# Altium integrated library TI Power Management PCMCIA and USB.IntLib: 328 symbols (part 13 of 14)
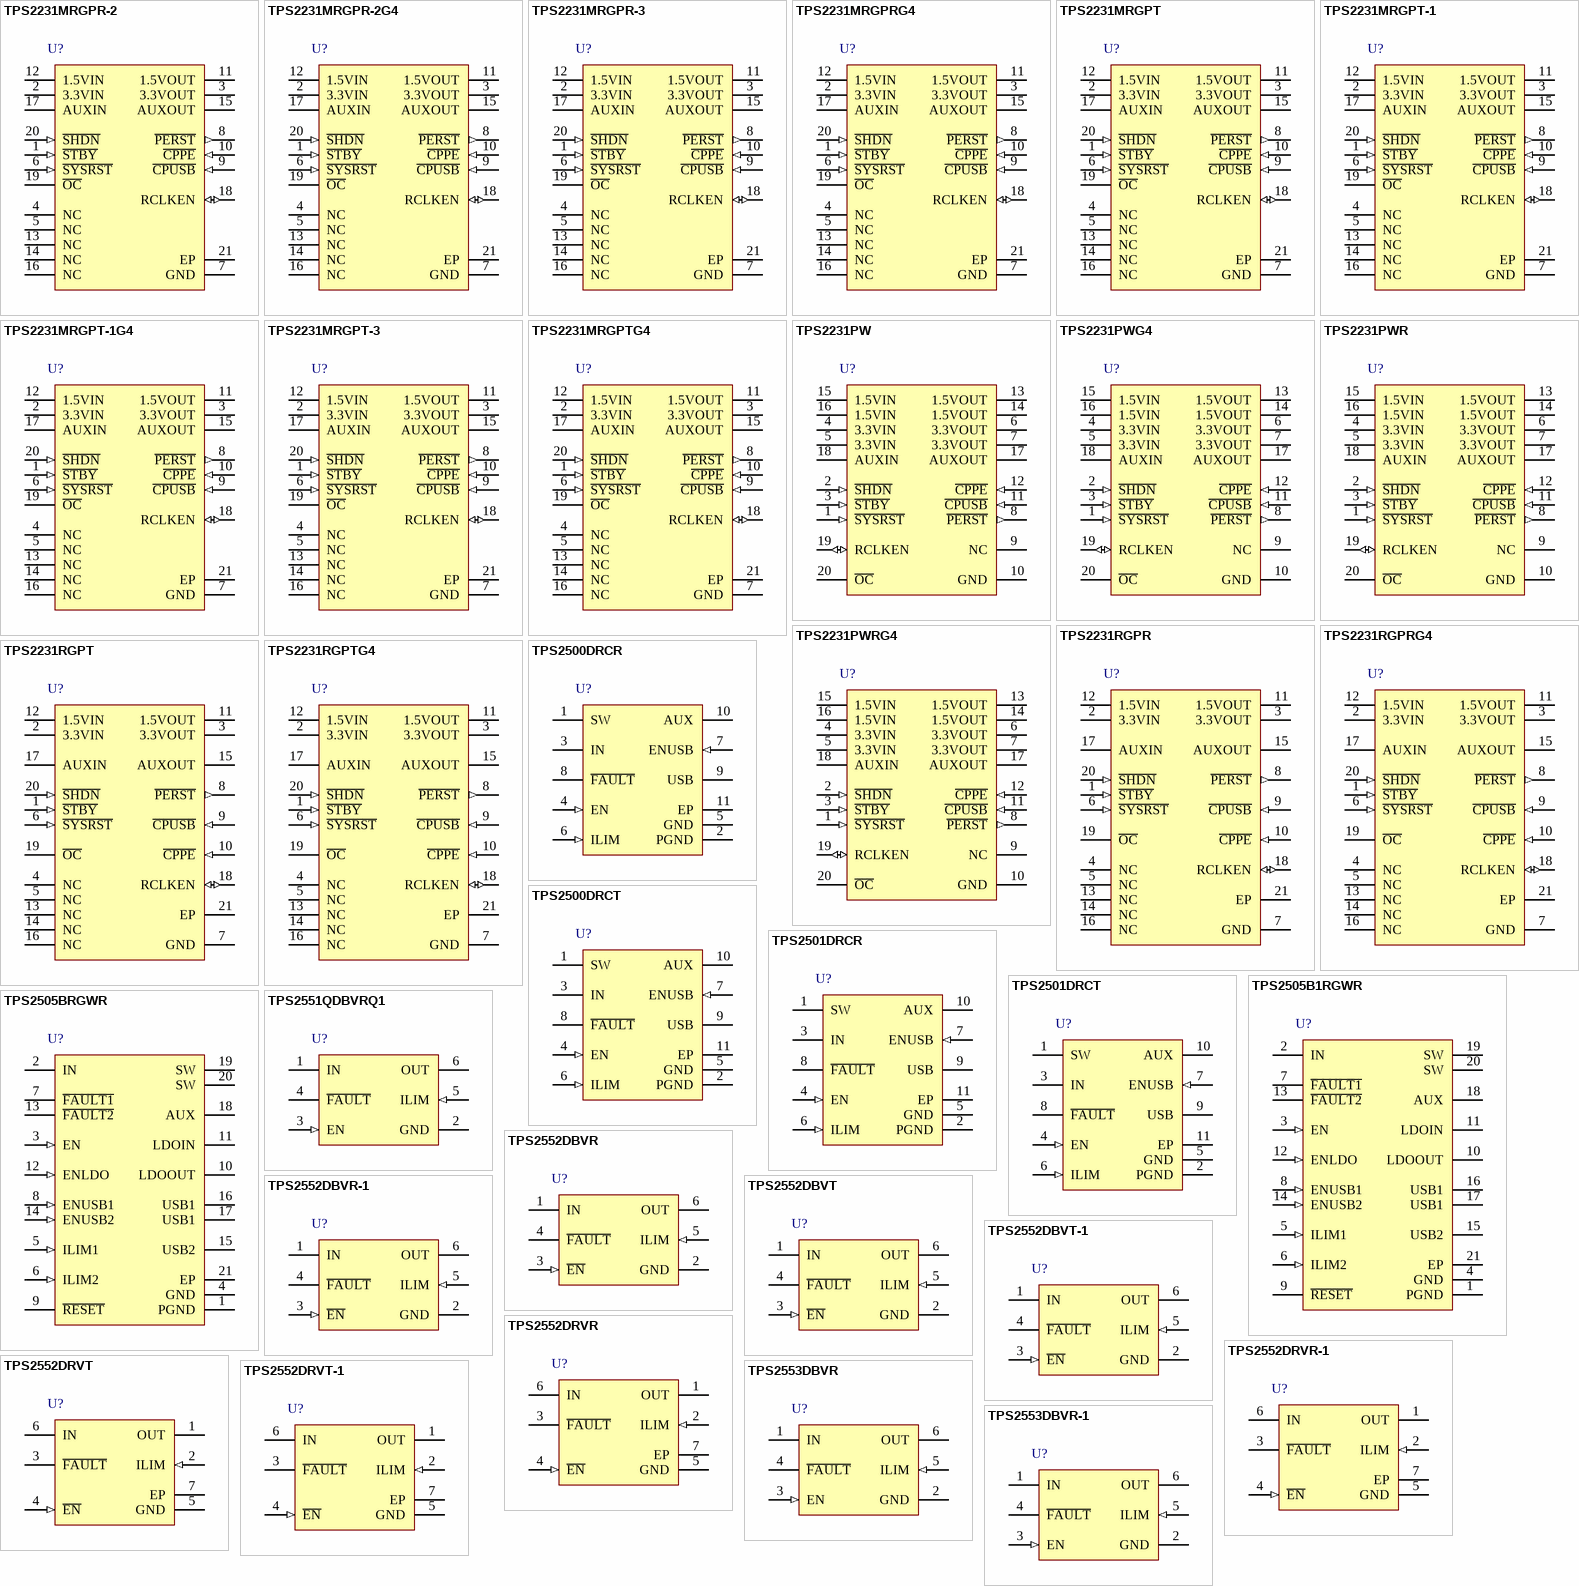
[diagram p22: symbols TPS2231MRGPR-2 to TPS2553DBVR-1]

## TPS2231RGPTG4
designator U?
ExpressCard Single Power Interface Switch, 20-pin QFN (RGP), Green (RoHS & no Sb/Br); Manufacturer: Texas Instruments; PartNumber: TPS2231RGPTG4; 3V rDS(on)(Typ)(mOhm): 45; Adjustable Current Limit(Min)(A): 2.5; Curr/Temp Protection: TRUE; Interface: Parallel; Ports: 1; SubFamily: PCMCIA/Cardbus Switch Matrix; DatasheetVersion: SLVS536J; PackageVersion: revG, Jul-2011; PackageReference: RGP20-2700X2700TP; PackageDescription: 20-Pin Plastic Quad Flatpack No-Lead, 4 x 4 mm Body, 0.5 mm Pitch; Supplier 1: Digi-Key; Supplier Part Number 1: TPS2231RGPTG4-ND; Supplier 2: Newark; Supplier Part Number 2: 58K6904; Supplier 3: Mouser; Supplier Part Number 3: 595-TPS2231RGPTG4; 5V rDS(on)(Typ)(mOhm): 45; Over Current Reporting: TRUE; Over Temp Reporting: TRUE; Single: TRUE; Single Channel: TRUE; Mounting Technology: Surface Mount; Code_JEDEC: MO-220; ComponentLink1Description: Datasheet; ComponentLink1URL: http://www.ti.com/general/docs/lit/getliterature.tsp?genericPartNumber=TPS2231&fileType=pdf
footprint RGP20-2700X2700TP (QFN, 20-Leads, Body 4x4mm, Pitch 0.5mm, Thermal Pad 2.7x2.7mm, TI Recommended)
pins: 1 ~{STBY} (in) "Standby input - active low, logic level signal. Internally pulled up to AUXIN.", 2 3.3VIN (power) "3.3-V input for 3.3VOUT", 3 3.3VOUT (power) "Switched output that delivers 0 V, 3.3 V or high impedance to card", 4 NC "No connection", 5 NC "No connection", 6 ~{SYSRST} (in) "System Reset input - active low, logic level signal. Internally pulled up to AUXIN.", 7 GND (power) "Ground", 8 ~{PERST} (out) "A logic level power good to slot 0 (with delay)", 9 ~{CPUSB} (in) "Card Present input for USB cards. Internally pulled up to AUXIN.", 10 ~{CPPE} (in) "Card Present input for PCI Express cards. Internally pulled up to AUXIN", 11 1.5VOUT (power) "Switched output that delivers 0 V, 1.5 V or high impedance to card", 12 1.5VIN (power) "1.5-V input for 1.5VOUT", 13 NC "No connection", 14 NC "No connection", 15 AUXOUT (power) "Switched output that delivers 0 V, AUX or high impedance to card", 16 NC "No connection", 17 AUXIN (power) "AUX input for AUXOUT and chip power", 18 RCLKEN (io) "Reference Clock Enable signal. As an output, a logic level power good to host for slot 0 (no delay - open drain). As an input, if kept inactive (low) by the host, prevents PERST from being de-asserted. Internally pulled up (See Datasheet)", 19 ~{OC} (oc) "Overcurrent status output for slot 0 (open drain)", 20 ~{SHDN} (in) "Shutdown input - active low, logic level signal. Internally pulled up to AUXIN.", 21 EP "Exposed Thermal Pad"

## TPS2500DRCR
designator U?
Integrated USB Power Switch with Boost Converter, 0.13 to 1.4 A Current Limit, -40 to 85 degC, 10-pin SON (DRC), Green (RoHS & no Sb/Br); Manufacturer: Texas Instruments; PartNumber: TPS2500DRCR; Continuous Current(Max)(A): 1.4; Current Limit Topology: Constant-Current; Enable: Active High; Number of Switches: 1; Rating: Catalog; Vin(Max)(V): 5.25; Vin(Min)(V): 1.8; DatasheetVersion: SLVS886C; PackageVersion: revL, Sep-2011; PackageReference: DRC10-2400X1650TP; PackageDescription: 10-Pin Plastic Small Outline No-Lead, 3 x 3 x 1 mm Body, 0.5 mm Pitch, Exposed Pad; Supplier 1: Digi-Key; Supplier Part Number 1: 296-25150-2-ND; Supplier 2: Digi-Key; Supplier Part Number 2: 296-25150-1-ND; Supplier 3: Digi-Key; Supplier Part Number 3: 296-25150-6-ND; Supplier 4: Newark; Supplier Part Number 4: 50R8107; Supplier 5: Mouser; Supplier Part Number 5: 595-TPS2500DRCR; Current Limit(A): 0.13 to 1.4; Eco-Plan: Green (RoHS & no Sb/Br); Mounting Technology: Surface Mount; ComponentLink1Description: Datasheet; ComponentLink1URL: http://www.ti.com/general/docs/lit/getliterature.tsp?genericPartNumber=TPS2500&fileType=pdf
footprint DRC10-2400X1650TP (SON, 10-Leads, Body 3x3mm, Pitch 0.5mm, Thermal Pad 2.4x1.65mm, TI Recommended)
pins: 1 SW (power) "Boost and rectifying switch input. This node is switched between PGND and AUX. Connect the boost inductor from IN to SW.", 2 PGND (power) "Source connection for the internal low-side boost-converter power switch. Connect to GND with a low-impedance connection to the input and output capacitors.", 3 IN (power) "Input supply voltage for boost converter", 4 EN (in) "Enable input for boost converter. Tie to IN to enable.", 5 GND (power) "Control/logic ground. Must be tied to PGND close to the IC externally.", 6 ILIM (in) "Program the nominal USB-switch current-limit threshold with a resistor to GND.", 7 ENUSB (in) "Enable input for the USB switch. Tie to IN or AUX to enable.", 8 ~{FAULT} (oc) "Active-low USB fault indicator (open-drain)", 9 USB (power) "Output of the USB power switch. Connect to the USB port.", 10 AUX (power) "Fixed 5.1-V boost converter output. Connect a low-ESR ceramic capacitor from AUX to PGND.", 11 EP (power) "Must be soldered to achieve appropriate power dissipation. Connect to GND."

## TPS2500DRCT
designator U?
Integrated USB Power Switch with Boost Converter, 0.13 to 1.4 A Current Limit, -40 to 85 degC, 10-pin SON (DRC), Green (RoHS & no Sb/Br); Manufacturer: Texas Instruments; PartNumber: TPS2500DRCT; Continuous Current(Max)(A): 1.4; Current Limit Topology: Constant-Current; Enable: Active High; Number of Switches: 1; Rating: Catalog; Vin(Max)(V): 5.25; Vin(Min)(V): 1.8; DatasheetVersion: SLVS886C; PackageVersion: revL, Sep-2011; PackageReference: DRC10-2400X1650TP; PackageDescription: 10-Pin Plastic Small Outline No-Lead, 3 x 3 x 1 mm Body, 0.5 mm Pitch, Exposed Pad; Supplier 1: Digi-Key; Supplier Part Number 1: 296-32462-2-ND; Supplier 2: Digi-Key; Supplier Part Number 2: 296-32462-1-ND; Supplier 3: Digi-Key; Supplier Part Number 3: 296-32462-6-ND; Supplier 4: Newark; Supplier Part Number 4: 29R0268; Supplier 5: Mouser; Supplier Part Number 5: 595-TPS2500DRCT; Current Limit(A): 0.13 to 1.4; Eco-Plan: Green (RoHS & no Sb/Br); Mounting Technology: Surface Mount; ComponentLink1Description: Datasheet; ComponentLink1URL: http://www.ti.com/general/docs/lit/getliterature.tsp?genericPartNumber=TPS2500&fileType=pdf
footprint DRC10-2400X1650TP (SON, 10-Leads, Body 3x3mm, Pitch 0.5mm, Thermal Pad 2.4x1.65mm, TI Recommended)
pins: 1 SW (power) "Boost and rectifying switch input. This node is switched between PGND and AUX. Connect the boost inductor from IN to SW.", 2 PGND (power) "Source connection for the internal low-side boost-converter power switch. Connect to GND with a low-impedance connection to the input and output capacitors.", 3 IN (power) "Input supply voltage for boost converter", 4 EN (in) "Enable input for boost converter. Tie to IN to enable.", 5 GND (power) "Control/logic ground. Must be tied to PGND close to the IC externally.", 6 ILIM (in) "Program the nominal USB-switch current-limit threshold with a resistor to GND.", 7 ENUSB (in) "Enable input for the USB switch. Tie to IN or AUX to enable.", 8 ~{FAULT} (oc) "Active-low USB fault indicator (open-drain)", 9 USB (power) "Output of the USB power switch. Connect to the USB port.", 10 AUX (power) "Fixed 5.1-V boost converter output. Connect a low-ESR ceramic capacitor from AUX to PGND.", 11 EP (power) "Must be soldered to achieve appropriate power dissipation. Connect to GND."

## TPS2501DRCR
designator U?
Integrated USB Power Switch with Boost Converter, 0.13 to 1.4 A Current Limit, -40 to 85 degC, 10-pin SON (DRC), Green (RoHS & no Sb/Br); Manufacturer: Texas Instruments; PartNumber: TPS2501DRCR; Continuous Current(Max)(A): 1.4; Current Limit Topology: Constant-Current; Enable: Active High; Number of Switches: 1; Rating: Catalog; Vin(Max)(V): 5.25; Vin(Min)(V): 1.8; DatasheetVersion: SLVS886C; PackageVersion: revL, Sep-2011; PackageReference: DRC10-2400X1650TP; PackageDescription: 10-Pin Plastic Small Outline No-Lead, 3 x 3 x 1 mm Body, 0.5 mm Pitch, Exposed Pad; Supplier 1: Digi-Key; Supplier Part Number 1: 296-25151-2-ND; Supplier 2: Digi-Key; Supplier Part Number 2: 296-25151-1-ND; Supplier 3: Digi-Key; Supplier Part Number 3: 296-25151-6-ND; Supplier 4: Newark; Supplier Part Number 4: 50R8109; Supplier 5: Mouser; Supplier Part Number 5: 595-TPS2501DRCR; Current Limit(A): 0.13 to 1.4; Eco-Plan: Green (RoHS & no Sb/Br); Mounting Technology: Surface Mount; ComponentLink1Description: Datasheet; ComponentLink1URL: http://www.ti.com/general/docs/lit/getliterature.tsp?genericPartNumber=TPS2501&fileType=pdf
footprint DRC10-2400X1650TP (SON, 10-Leads, Body 3x3mm, Pitch 0.5mm, Thermal Pad 2.4x1.65mm, TI Recommended)
pins: 1 SW (power) "Boost and rectifying switch input. This node is switched between PGND and AUX. Connect the boost inductor from IN to SW.", 2 PGND (power) "Source connection for the internal low-side boost-converter power switch. Connect to GND with a low-impedance connection to the input and output capacitors.", 3 IN (power) "Input supply voltage for boost converter.", 4 EN (in) "Enable input for boost converter. Tie to IN to enable.", 5 GND (power) "Control/logic ground. Must be tied to PGND close to the IC externally.", 6 ILIM (in) "Program the nominal USB-switch current-limit threshold with a resistor to GND.", 7 ENUSB (in) "Enable input for the USB switch. Tie to IN or AUX to enable.", 8 ~{FAULT} (oc) "Active-low USB fault indicator (open-drain).", 9 USB (power) "Output of the USB power switch. Connect to the USB port.", 10 AUX (power) "Fixed 5.1-V boost converter output. Connect a low-ESR ceramic capacitor from AUX to PGND.", 11 EP (power) "Must be soldered to achieve appropriate power dissipation. Connect to GND."

## TPS2501DRCT
designator U?
Integrated USB Power Switch with Boost Converter, 0.13 to 1.4 A Current Limit, -40 to 85 degC, 10-pin SON (DRC), Green (RoHS & no Sb/Br); Manufacturer: Texas Instruments; PartNumber: TPS2501DRCT; Continuous Current(Max)(A): 1.4; Current Limit Topology: Constant-Current; Enable: Active High; Number of Switches: 1; Rating: Catalog; Vin(Max)(V): 5.25; Vin(Min)(V): 1.8; DatasheetVersion: SLVS886C; PackageVersion: revL, Sep-2011; PackageReference: DRC10-2400X1650TP; PackageDescription: 10-Pin Plastic Small Outline No-Lead, 3 x 3 x 1 mm Body, 0.5 mm Pitch, Exposed Pad; Supplier 1: Digi-Key; Supplier Part Number 1: 296-32463-2-ND; Supplier 2: Digi-Key; Supplier Part Number 2: 296-32463-1-ND; Supplier 3: Digi-Key; Supplier Part Number 3: 296-32463-6-ND; Supplier 4: Newark; Supplier Part Number 4: 50R8110; Supplier 5: Mouser; Supplier Part Number 5: 595-TPS2501DRCT; Current Limit(A): 0.13 to 1.4; Eco-Plan: Green (RoHS & no Sb/Br); Mounting Technology: Surface Mount; ComponentLink1Description: Datasheet; ComponentLink1URL: http://www.ti.com/general/docs/lit/getliterature.tsp?genericPartNumber=TPS2501&fileType=pdf
footprint DRC10-2400X1650TP (SON, 10-Leads, Body 3x3mm, Pitch 0.5mm, Thermal Pad 2.4x1.65mm, TI Recommended)
pins: 1 SW (power) "Boost and rectifying switch input. This node is switched between PGND and AUX. Connect the boost inductor from IN to SW.", 2 PGND (power) "Source connection for the internal low-side boost-converter power switch. Connect to GND with a low-impedance connection to the input and output capacitors.", 3 IN (power) "Input supply voltage for boost converter.", 4 EN (in) "Enable input for boost converter. Tie to IN to enable.", 5 GND (power) "Control/logic ground. Must be tied to PGND close to the IC externally.", 6 ILIM (in) "Program the nominal USB-switch current-limit threshold with a resistor to GND.", 7 ENUSB (in) "Enable input for the USB switch. Tie to IN or AUX to enable.", 8 ~{FAULT} (oc) "Active-low USB fault indicator (open-drain).", 9 USB (power) "Output of the USB power switch. Connect to the USB port.", 10 AUX (power) "Fixed 5.1-V boost converter output. Connect a low-ESR ceramic capacitor from AUX to PGND.", 11 EP (power) "Must be soldered to achieve appropriate power dissipation. Connect to GND."

## TPS2505B1RGWR
designator U?
Integrated Dual USB Power Switch with Boost Converter and LDO, 0.1 to 1.1 A Current Limit, -40 to 85 degC, 20-pin VQFN (RGW), Green (RoHS & no Sb/Br); Manufacturer: Texas Instruments; PartNumber: TPS2505B1RGWR; Rating: Catalog; Vin(Max)(V): 5.25; Vin(Min)(V): 1.8; DatasheetVersion: SPAS093B; PackageVersion: revC, Jul-2011; PackageReference: RGW20-3150X3150TP; PackageDescription: 20-Pin Plastic Quad Flat No-Lead, 5 x 5 mm Body, 0.65 mm Pitch, 3.15 x 3.15 mm Exposed Pad; Supplier 1: Digi-Key; Supplier Part Number 1: 296-25805-2-ND; Supplier 2: Digi-Key; Supplier Part Number 2: 296-25805-1-ND; Supplier 3: Digi-Key; Supplier Part Number 3: 296-25805-6-ND; Supplier 4: Newark; Supplier Part Number 4: 69R0438; Supplier 5: Mouser; Supplier Part Number 5: 595-TPS2505B1RGWR; Current Limit(A): 0.1 to 1.1; Eco-Plan: Green (RoHS & no Sb/Br); Mounting Technology: Surface Mount; Code_JEDEC: MO-220; ComponentLink1Description: Datasheet; ComponentLink1URL: http://www.ti.com/general/docs/lit/getliterature.tsp?genericPartNumber=TPS2505&fileType=pdf
footprint RGW20-3150X3150TP (QFN, 20-Leads, Body 5x5mm, Pitch 0.65mm, Thermal Pad 3.15x3.15mm, TI Recommended)
pins: 1 PGND (power) "Source connection for the internal low-side boost converter power switch. Connect to GND with a low impedance connection to the input and output capacitors.", 2 IN (power) "Input supply voltage for boost converter", 3 EN (in) "Enable input for boost converter. Tie to IN to enable.", 4 GND (power) "Control / logic ground. Must be tied to PGND close to the IC externally.", 5 ILIM1 (in) "Program the nominal USB1 switch current-limit threshold with a resistor to GND", 6 ILIM2 (in) "Program the nominal USB2 switch current-limit threshold with a resistor to GND.", 7 ~{FAULT1} (oc) "Active low USB1 fault indicator (open drain).", 8 ENUSB1 (in) "Enable input for the USB1 switch. Tie to IN or AUX to enable.", 9 ~{RESET} (oc) "Active low LDO output good indicator (open drain)", 10 LDOOUT (power) "Fixed 3.3-V LDO output. Connect a low-ESR ceramic capacitor from LDOOUT to GND.", 11 LDOIN (power) "Input supply voltage for LDO. Connect to AUX", 12 ENLDO (in) "Enable input for the LDO. Tie to AUX to enable.", 13 ~{FAULT2} (oc) "Active low USB2 fault indicator (open drain).", 14 ENUSB2 (in) "Enable input for the USB2 switch. Tie to IN or AUX to enable.", 15 USB2 (power) "Output of the USB2 power switch. Connect to the USB2 port.", 16 USB1 (power) "Output of the USB1 power switch. Connect to the USB1 port.", 17 USB1 (power) "Output of the USB1 power switch. Connect to the USB1 port.", 18 AUX (power) "Fixed 5.1-V boost converter output. Connect a low-ESR ceramic capacitor from AUX to PGND.", 19 SW (power) "Boost and rectifying switch input. This node is switched between PGND and AUX. Connect  the boost inductor from IN to SW.", 20 SW (power) "Boost and rectifying switch input. This node is switched between PGND and AUX. Connect  the boost inductor from IN to SW.", 21 EP (power) "Internally connected to PGND. Must be soldered to board ground for thermal dissipation."

## TPS2505BRGWR
designator U?
Integrated Dual USB Power Switch with Boost Converter and LDO, 0.1 to 1.1 A Current Limit, -40 to 85 degC, 20-pin VQFN (RGW); Manufacturer: Texas Instruments; PartNumber: TPS2505BRGWR; Rating: Catalog; Vin(Max)(V): 5.25; Vin(Min)(V): 1.8; DatasheetVersion: SPAS093B; PackageVersion: revC, Jul-2011; PackageReference: RGW20-3150X3150TP; PackageDescription: 20-Pin Plastic Quad Flat No-Lead, 5 x 5 mm Body, 0.65 mm Pitch, 3.15 x 3.15 mm Exposed Pad; Supplier 1: Mouser; Supplier Part Number 1: N/A; Current Limit(A): 0.1 to 1.1; Mounting Technology: Surface Mount; Code_JEDEC: MO-220; ComponentLink1Description: Datasheet; ComponentLink1URL: http://www.ti.com/general/docs/lit/getliterature.tsp?genericPartNumber=TPS2505&fileType=pdf
footprint RGW20-3150X3150TP (QFN, 20-Leads, Body 5x5mm, Pitch 0.65mm, Thermal Pad 3.15x3.15mm, TI Recommended)
pins: 1 PGND (power) "Source connection for the internal low-side boost converter power switch. Connect to GND with a low impedance connection to the input and output capacitors.", 2 IN (power) "Input supply voltage for boost converter", 3 EN (in) "Enable input for boost converter. Tie to IN to enable.", 4 GND (power) "Control / logic ground. Must be tied to PGND close to the IC externally.", 5 ILIM1 (in) "Program the nominal USB1 switch current-limit threshold with a resistor to GND", 6 ILIM2 (in) "Program the nominal USB2 switch current-limit threshold with a resistor to GND.", 7 ~{FAULT1} (oc) "Active low USB1 fault indicator (open drain).", 8 ENUSB1 (in) "Enable input for the USB1 switch. Tie to IN or AUX to enable.", 9 ~{RESET} (oc) "Active low LDO output good indicator (open drain)", 10 LDOOUT (power) "Fixed 3.3-V LDO output. Connect a low-ESR ceramic capacitor from LDOOUT to GND.", 11 LDOIN (power) "Input supply voltage for LDO. Connect to AUX", 12 ENLDO (in) "Enable input for the LDO. Tie to AUX to enable.", 13 ~{FAULT2} (oc) "Active low USB2 fault indicator (open drain).", 14 ENUSB2 (in) "Enable input for the USB2 switch. Tie to IN or AUX to enable.", 15 USB2 (power) "Output of the USB2 power switch. Connect to the USB2 port.", 16 USB1 (power) "Output of the USB1 power switch. Connect to the USB1 port.", 17 USB1 (power) "Output of the USB1 power switch. Connect to the USB1 port.", 18 AUX (power) "Fixed 5.1-V boost converter output. Connect a low-ESR ceramic capacitor from AUX to PGND.", 19 SW (power) "Boost and rectifying switch input. This node is switched between PGND and AUX. Connect  the boost inductor from IN to SW.", 20 SW (power) "Boost and rectifying switch input. This node is switched between PGND and AUX. Connect  the boost inductor from IN to SW.", 21 EP (power) "Internally connected to PGND. Must be soldered to board ground for thermal dissipation."

## TPS2551QDBVRQ1
designator U?
Dual-Channel, Current-Limited, Power-Distribution Switch, 0.1 to 1.1 A Current Limit, -40 to 125 degC, 6-pin SOT-23 (DBV), Green (RoHS & no Sb/Br); Manufacturer: Texas Instruments; PartNumber: TPS2551QDBVRQ1; Continuous Current(Max)(A): 1.5; Current Limit Accuracy @ 1A: +/- 25%; Current Limit Topology: Constant-Current; Current Limit(A): 1.72 to 2.86; Enable: Active High; Number of Switches: 2; Rating: Catalog; rDS(on) per FET(Typ)(mOhms): 70; Vin(Max)(V): 5.5; Vin(Min)(V): 4.5; DatasheetVersion: SLVS850; PackageVersion: revK, Mar-2006; PackageReference: DBV6; PackageDescription: 6-Pin Plastic Small-Outline Package, 2.9 x 1.6 mm Body, 0.95 mm Pitch, 2.8 mm Lead Span; Supplier 1: Digi-Key; Supplier Part Number 1: 296-23692-2-ND; Supplier 2: Digi-Key; Supplier Part Number 2: 296-23692-1-ND; Supplier 3: Digi-Key; Supplier Part Number 3: 296-23692-6-ND; Supplier 4: Newark; Supplier Part Number 4: 03P5174; Supplier 5: Mouser; Supplier Part Number 5: 595-TPS2551QDBVRQ1; Eco-Plan: Green (RoHS & no Sb/Br); Mounting Technology: Surface Mount; Code_JEDEC: MO-178-AB*; ComponentLink1Description: Datasheet; ComponentLink1URL: http://www.ti.com/general/docs/lit/getliterature.tsp?genericPartNumber=TPS2551-Q1&fileType=pdf
footprint DBV6_N (SOT23, 6-Leads, Body 2.9x1.6mm, Pitch 0.95mm, Lead Span 2.8mm, IPC Medium Density)
footprint DBV6_L (SOT23, 6-Leads, Body 2.9x1.6mm, Pitch 0.95mm, Lead Span 2.8mm, IPC High Density)
footprint DBV6_M (SOT23, 6-Leads, Body 2.9x1.6mm, Pitch 0.95mm, Lead Span 2.8mm, IPC Low Density)
pins: 1 IN (power) "Input voltage; connect a 0.1 mF or greater ceramic capacitor from IN to GND as close to the IC as possible", 2 GND (power) "Ground connection", 3 EN (in) "Enable input, logic high turns on power switch", 4 ~{FAULT} (hiz) "Active-low open-drain output, asserted during overcurrent, overtemperature, or reverse-voltage conditions", 5 ILIM (in) "External resistor used to set current-limit threshold; recommended 14.3 k ohm =< RILIM =< 80.6 k ohm.", 6 OUT (power) "Power-switch output"

## TPS2552DBVR
designator U?
Adjustable, Active Low, Constant-Current, Current-Limited Power-Distribution Switch, 0.075 to 1.7 A Current Limit, -40 to 85 degC, 6-pin SOT-23 (DBV), Green (RoHS & no Sb/Br); Manufacturer: Texas Instruments; PartNumber: TPS2552DBVR; Continuous Current(Max)(A): 1.5; Current Limit Accuracy @ 1A: +/-7.5% (925mA min / 1075mA max); Number of Switches: 1; Rating: Catalog; rDS(on) per FET(Typ)(mOhms): 100/DRV, 85/DBV; Vin(Max)(V): 6.5; Vin(Min)(V): 2.5; DatasheetVersion: SLVS841E; PackageVersion: revK, Mar-2006; PackageReference: DBV6; PackageDescription: 6-Pin Plastic Small-Outline Package, 2.9 x 1.6 mm Body, 0.95 mm Pitch, 2.8 mm Lead Span; Supplier 1: Digi-Key; Supplier Part Number 1: TPS2552DBVR-ND; Supplier 2: Farnell; Supplier Part Number 2: 1755632; Supplier 3: Newark; Supplier Part Number 3: 45P8263; Supplier 4: Mouser; Supplier Part Number 4: 595-TPS2552DBVR; Current Limit Topology: Constant-Current; Current Limit(A): 0.075 to 1.7; Eco-Plan: Green (RoHS & no Sb/Br); Enable: Active Low; Mounting Technology: Surface Mount; Code_JEDEC: MO-178-AB*; ComponentLink1Description: Datasheet; ComponentLink1URL: http://www.ti.com/general/docs/lit/getliterature.tsp?genericPartNumber=TPS2552&fileType=pdf
footprint DBV6_N (SOT23, 6-Leads, Body 2.9x1.6mm, Pitch 0.95mm, Lead Span 2.8mm, IPC Medium Density)
footprint DBV6_L (SOT23, 6-Leads, Body 2.9x1.6mm, Pitch 0.95mm, Lead Span 2.8mm, IPC High Density)
footprint DBV6_M (SOT23, 6-Leads, Body 2.9x1.6mm, Pitch 0.95mm, Lead Span 2.8mm, IPC Low Density)
pins: 1 IN (power) "Input voltage; connect a 0.1 uF or greater ceramic capacitor from IN to GND as close to the IC as possible", 2 GND (power) "Ground connection; connect externally to PowerPAD", 3 ~{EN} (in) "Enable input, logic low turns on power switch", 4 ~{FAULT} (hiz) "Active-low open-drain output, asserted during overcurrent, overtemperature, or reverse-voltage conditions", 5 ILIM (in) "External resistor used to set current-limit threshold; recommended 15 k ohm =< RILIM =< 232 k ohm", 6 OUT (power) "Power-switch output"

## TPS2552DBVR-1
designator U?
Adjustable, Active Low, Latch-off, Current-Limited Power-Distribution Switch, 0.075 to 1.7 A Current Limit, -40 to 85 degC, 6-pin SOT-23 (DBV), Green (RoHS & no Sb/Br); Manufacturer: Texas Instruments; PartNumber: TPS2552DBVR-1; Continuous Current(Max)(A): 1.5; Current Limit Accuracy @ 1A: +/-7.5% (925mA min / 1075mA max); Number of Switches: 1; Rating: Catalog; rDS(on) per FET(Typ)(mOhms): 100/DRV, 85/DBV; Vin(Max)(V): 6.5; Vin(Min)(V): 2.5; DatasheetVersion: SLVS841E; PackageVersion: revK, Mar-2006; PackageReference: DBV6; PackageDescription: 6-Pin Plastic Small-Outline Package, 2.9 x 1.6 mm Body, 0.95 mm Pitch, 2.8 mm Lead Span; Supplier 1: Digi-Key; Supplier Part Number 1: TPS2552DBVR-1-ND; Supplier 2: Newark; Supplier Part Number 2: 45P8264; Supplier 3: Mouser; Supplier Part Number 3: 595-TPS2552DBVR-1; Current Limit Topology: Latch-off; Current Limit(A): 0.075 to 1.7; Eco-Plan: Green (RoHS & no Sb/Br); Enable: Active Low; Mounting Technology: Surface Mount; Code_JEDEC: MO-178-AB*; ComponentLink1Description: Datasheet; ComponentLink1URL: http://www.ti.com/general/docs/lit/getliterature.tsp?genericPartNumber=TPS2552-1&fileType=pdf
footprint DBV6_N (SOT23, 6-Leads, Body 2.9x1.6mm, Pitch 0.95mm, Lead Span 2.8mm, IPC Medium Density)
footprint DBV6_L (SOT23, 6-Leads, Body 2.9x1.6mm, Pitch 0.95mm, Lead Span 2.8mm, IPC High Density)
footprint DBV6_M (SOT23, 6-Leads, Body 2.9x1.6mm, Pitch 0.95mm, Lead Span 2.8mm, IPC Low Density)
pins: 1 IN (power) "Input voltage; connect a 0.1 uF or greater ceramic capacitor from IN to GND as close to the IC as possible.", 2 GND (power) "Ground connection; connect externally to PowerPAD", 3 ~{EN} (in) "Enable input, logic low turns on power switch", 4 ~{FAULT} (hiz) "Active-low open-drain output, asserted during overcurrent, overtemperature, or reverse-voltage conditions.", 5 ILIM (in) "External resistor used to set current-limit threshold; recommended 15 k ohm =< RILIM =< 232k ohm.", 6 OUT (power) "Power-switch output"

## TPS2552DBVT
designator U?
Adjustable, Active Low, Constant-Current, Current-Limited Power-Distribution Switch, 0.075 to 1.7 A Current Limit, -40 to 85 degC, 6-pin SOT-23 (DBV), Green (RoHS & no Sb/Br); Manufacturer: Texas Instruments; PartNumber: TPS2552DBVT; Continuous Current(Max)(A): 1.5; Current Limit Accuracy @ 1A: +/-7.5% (925mA min / 1075mA max); Number of Switches: 1; Rating: Catalog; rDS(on) per FET(Typ)(mOhms): 100/DRV, 85/DBV; Vin(Max)(V): 6.5; Vin(Min)(V): 2.5; DatasheetVersion: SLVS841E; PackageVersion: revK, Mar-2006; PackageReference: DBV6; PackageDescription: 6-Pin Plastic Small-Outline Package, 2.9 x 1.6 mm Body, 0.95 mm Pitch, 2.8 mm Lead Span; Supplier 1: Digi-Key; Supplier Part Number 1: 296-23988-2-ND; Supplier 2: Digi-Key; Supplier Part Number 2: 296-23988-1-ND; Supplier 3: Digi-Key; Supplier Part Number 3: 296-23988-6-ND; Supplier 4: Farnell; Supplier Part Number 4: 1694421; Supplier 5: Newark; Supplier Part Number 5: 40P3866; Supplier 6: Mouser; Supplier Part Number 6: 595-TPS2552DBVT; Current Limit Topology: Constant-Current; Current Limit(A): 0.075 to 1.7; Eco-Plan: Green (RoHS & no Sb/Br); Enable: Active Low; Mounting Technology: Surface Mount; Code_JEDEC: MO-178-AB*; ComponentLink1Description: Datasheet; ComponentLink1URL: http://www.ti.com/general/docs/lit/getliterature.tsp?genericPartNumber=TPS2552&fileType=pdf
footprint DBV6_N (SOT23, 6-Leads, Body 2.9x1.6mm, Pitch 0.95mm, Lead Span 2.8mm, IPC Medium Density)
footprint DBV6_L (SOT23, 6-Leads, Body 2.9x1.6mm, Pitch 0.95mm, Lead Span 2.8mm, IPC High Density)
footprint DBV6_M (SOT23, 6-Leads, Body 2.9x1.6mm, Pitch 0.95mm, Lead Span 2.8mm, IPC Low Density)
pins: 1 IN (power) "Input voltage; connect a 0.1 uF or greater ceramic capacitor from IN to GND as close to the IC as possible", 2 GND (power) "Ground connection; connect externally to PowerPAD", 3 ~{EN} (in) "Enable input, logic low turns on power switch", 4 ~{FAULT} (hiz) "Active-low open-drain output, asserted during overcurrent, overtemperature, or reverse-voltage conditions", 5 ILIM (in) "External resistor used to set current-limit threshold; recommended 15 k ohm =< RILIM =< 232 k ohm", 6 OUT (power) "Power-switch output"

## TPS2552DBVT-1
designator U?
Adjustable, Active Low, Latch-off, Current-Limited Power-Distribution Switch, 0.075 to 1.7 A Current Limit, -40 to 85 degC, 6-pin SOT-23 (DBV), Green (RoHS & no Sb/Br); Manufacturer: Texas Instruments; PartNumber: TPS2552DBVT-1; Continuous Current(Max)(A): 1.5; Current Limit Accuracy @ 1A: +/-7.5% (925mA min / 1075mA max); Number of Switches: 1; Rating: Catalog; rDS(on) per FET(Typ)(mOhms): 100/DRV, 85/DBV; Vin(Max)(V): 6.5; Vin(Min)(V): 2.5; DatasheetVersion: SLVS841E; PackageVersion: revK, Mar-2006; PackageReference: DBV6; PackageDescription: 6-Pin Plastic Small-Outline Package, 2.9 x 1.6 mm Body, 0.95 mm Pitch, 2.8 mm Lead Span; Supplier 1: Digi-Key; Supplier Part Number 1: 296-23989-2-ND; Supplier 2: Digi-Key; Supplier Part Number 2: 296-23989-1-ND; Supplier 3: Digi-Key; Supplier Part Number 3: 296-23989-6-ND; Supplier 4: Farnell; Supplier Part Number 4: 1694422; Supplier 5: Newark; Supplier Part Number 5: 40P3867; Supplier 6: Mouser; Supplier Part Number 6: 595-TPS2552DBVT-1; Current Limit Topology: Latch-off; Current Limit(A): 0.075 to 1.7; Eco-Plan: Green (RoHS & no Sb/Br); Enable: Active Low; Mounting Technology: Surface Mount; Code_JEDEC: MO-178-AB*; ComponentLink1Description: Datasheet; ComponentLink1URL: http://www.ti.com/general/docs/lit/getliterature.tsp?genericPartNumber=TPS2552-1&fileType=pdf
footprint DBV6_N (SOT23, 6-Leads, Body 2.9x1.6mm, Pitch 0.95mm, Lead Span 2.8mm, IPC Medium Density)
footprint DBV6_L (SOT23, 6-Leads, Body 2.9x1.6mm, Pitch 0.95mm, Lead Span 2.8mm, IPC High Density)
footprint DBV6_M (SOT23, 6-Leads, Body 2.9x1.6mm, Pitch 0.95mm, Lead Span 2.8mm, IPC Low Density)
pins: 1 IN (power) "Input voltage; connect a 0.1 uF or greater ceramic capacitor from IN to GND as close to the IC as possible.", 2 GND (power) "Ground connection; connect externally to PowerPAD", 3 ~{EN} (in) "Enable input, logic low turns on power switch", 4 ~{FAULT} (hiz) "Active-low open-drain output, asserted during overcurrent, overtemperature, or reverse-voltage conditions.", 5 ILIM (in) "External resistor used to set current-limit threshold; recommended 15 k ohm =< RILIM =< 232k ohm.", 6 OUT (power) "Power-switch output"

## TPS2552DRVR
designator U?
Adjustable, Active Low, Constant-Current, Current-Limited Power-Distribution Switch, 0.075 to 1.7 A Current Limit, -40 to 85 degC, 6-pin SON (DRV), Green (RoHS & no Sb/Br); Manufacturer: Texas Instruments; PartNumber: TPS2552DRVR; Continuous Current(Max)(A): 1.5; Current Limit Accuracy @ 1A: +/-7.5% (925mA min / 1075mA max); Number of Switches: 1; Rating: Catalog; rDS(on) per FET(Typ)(mOhms): 100/DRV, 85/DBV; Vin(Max)(V): 6.5; Vin(Min)(V): 2.5; DatasheetVersion: SLVS841E; PackageVersion: revE, Oct-2010; PackageReference: DRV6-1600X1000TP; PackageDescription: 6-Pin Plastic Small Outline No-Lead, 2 x 2 x 0.8 mm Body, 0.65 mm Pitch, Exposed Pad; Supplier 1: Digi-Key; Supplier Part Number 1: TPS2552DRVR-ND; Supplier 2: Mouser; Supplier Part Number 2: 595-TPS2552DRVR; Current Limit Topology: Constant-Current; Current Limit(A): 0.075 to 1.7; Eco-Plan: Green (RoHS & no Sb/Br); Enable: Active Low; Mounting Technology: Surface Mount; ComponentLink1Description: Datasheet; ComponentLink1URL: http://www.ti.com/general/docs/lit/getliterature.tsp?genericPartNumber=TPS2552&fileType=pdf
footprint DRV6-1600X1000TP (SON, 6-Leads, Body 2x2mm, Pitch 0.65mm, Thermal Pad 1.6x1mm, TI Recommended)
pins: 1 OUT (power) "Power-switch output", 2 ILIM (in) "External resistor used to set current-limit threshold; recommended 15 k ohm =< RILIM =< 232 k ohm.", 3 ~{FAULT} (hiz) "Active-low open-drain output, asserted during overcurrent, overtemperature, or reverse-voltage conditions.", 4 ~{EN} (in) "Enable input, logic low turns on power switch", 5 GND (power) "Ground connection; connect externally to PowerPAD", 6 IN (power) "Input voltage; connect a 0.1 uF or greater ceramic capacitor from IN to GND as close to the IC as possible.", 7 EP (power) "Internally connected to GND; used to heat-sink the part to the circuit board traces. Connect PowerPAD to GND pin externally."

## TPS2552DRVR-1
designator U?
Adjustable, Active Low, Latch-off, Current-Limited Power-Distribution Switch, 0.075 to 1.7 A Current Limit, -40 to 85 degC, 6-pin SON (DRV), Green (RoHS & no Sb/Br); Manufacturer: Texas Instruments; PartNumber: TPS2552DRVR-1; Continuous Current(Max)(A): 1.5; Current Limit Accuracy @ 1A: +/-7.5% (925mA min / 1075mA max); Number of Switches: 1; Rating: Catalog; rDS(on) per FET(Typ)(mOhms): 100/DRV, 85/DBV; Vin(Max)(V): 6.5; Vin(Min)(V): 2.5; DatasheetVersion: SLVS841E; PackageVersion: revE, Oct-2010; PackageReference: DRV6-1600X1000TP; PackageDescription: 6-Pin Plastic Small Outline No-Lead, 2 x 2 x 0.8 mm Body, 0.65 mm Pitch, Exposed Pad; Supplier 1: Digi-Key; Supplier Part Number 1: TPS2552DRVR-1-ND; Supplier 2: Mouser; Supplier Part Number 2: 595-TPS2552DRVR-1; Current Limit Topology: Latch-off; Current Limit(A): 0.075 to 1.7; Eco-Plan: Green (RoHS & no Sb/Br); Enable: Active Low; Mounting Technology: Surface Mount; ComponentLink1Description: Datasheet; ComponentLink1URL: http://www.ti.com/general/docs/lit/getliterature.tsp?genericPartNumber=TPS2552-1&fileType=pdf
footprint DRV6-1600X1000TP (SON, 6-Leads, Body 2x2mm, Pitch 0.65mm, Thermal Pad 1.6x1mm, TI Recommended)
pins: 1 OUT (power) "Power-switch output", 2 ILIM (in) "External resistor used to set current-limit threshold; recommended 15 k ohm =< RILIM =< 232 k ohm.", 3 ~{FAULT} (hiz) "Active-low open-drain output, asserted during overcurrent, overtemperature, or reverse-voltage conditions.", 4 ~{EN} (in) "Enable input, logic low turns on power switch", 5 GND (power) "Ground connection; connect externally to PowerPAD", 6 IN (power) "Input voltage; connect a 0.1 uF or greater ceramic capacitor from IN to GND as close to the IC as possible.", 7 EP (power) "Internally connected to GND; used to heat-sink the part to the circuit board traces. Connect PowerPAD to GND pin externally."

## TPS2552DRVT
designator U?
Adjustable, Active Low, Constant-Current, Current-Limited Power-Distribution Switch, 0.075 to 1.7 A Current Limit, -40 to 85 degC, 6-pin SON (DRV), Green (RoHS & no Sb/Br); Manufacturer: Texas Instruments; PartNumber: TPS2552DRVT; Continuous Current(Max)(A): 1.5; Current Limit Accuracy @ 1A: +/-7.5% (925mA min / 1075mA max); Number of Switches: 1; Rating: Catalog; rDS(on) per FET(Typ)(mOhms): 100/DRV, 85/DBV; Vin(Max)(V): 6.5; Vin(Min)(V): 2.5; DatasheetVersion: SLVS841E; PackageVersion: revE, Oct-2010; PackageReference: DRV6-1600X1000TP; PackageDescription: 6-Pin Plastic Small Outline No-Lead, 2 x 2 x 0.8 mm Body, 0.65 mm Pitch, Exposed Pad; Supplier 1: Digi-Key; Supplier Part Number 1: 296-23997-2-ND; Supplier 2: Digi-Key; Supplier Part Number 2: 296-23997-1-ND; Supplier 3: Digi-Key; Supplier Part Number 3: 296-23997-6-ND; Supplier 4: Farnell; Supplier Part Number 4: 1694423; Supplier 5: Newark; Supplier Part Number 5: 40P3868; Supplier 6: Mouser; Supplier Part Number 6: 595-TPS2552DRVT; Current Limit Topology: Constant-Current; Current Limit(A): 0.075 to 1.7; Eco-Plan: Green (RoHS & no Sb/Br); Enable: Active Low; Mounting Technology: Surface Mount; ComponentLink1Description: Datasheet; ComponentLink1URL: http://www.ti.com/general/docs/lit/getliterature.tsp?genericPartNumber=TPS2552&fileType=pdf
footprint DRV6-1600X1000TP (SON, 6-Leads, Body 2x2mm, Pitch 0.65mm, Thermal Pad 1.6x1mm, TI Recommended)
pins: 1 OUT (power) "Power-switch output", 2 ILIM (in) "External resistor used to set current-limit threshold; recommended 15 k ohm =< RILIM =< 232 k ohm.", 3 ~{FAULT} (hiz) "Active-low open-drain output, asserted during overcurrent, overtemperature, or reverse-voltage conditions.", 4 ~{EN} (in) "Enable input, logic low turns on power switch", 5 GND (power) "Ground connection; connect externally to PowerPAD", 6 IN (power) "Input voltage; connect a 0.1 uF or greater ceramic capacitor from IN to GND as close to the IC as possible.", 7 EP (power) "Internally connected to GND; used to heat-sink the part to the circuit board traces. Connect PowerPAD to GND pin externally."

## TPS2552DRVT-1
designator U?
Adjustable, Active Low, Latch-off, Current-Limited Power-Distribution Switch, 0.075 to 1.7 A Current Limit, -40 to 85 degC, 6-pin SON (DRV), Green (RoHS & no Sb/Br); Manufacturer: Texas Instruments; PartNumber: TPS2552DRVT-1; Continuous Current(Max)(A): 1.5; Current Limit Accuracy @ 1A: +/-7.5% (925mA min / 1075mA max); Number of Switches: 1; Rating: Catalog; rDS(on) per FET(Typ)(mOhms): 100/DRV, 85/DBV; Vin(Max)(V): 6.5; Vin(Min)(V): 2.5; DatasheetVersion: SLVS841E; PackageVersion: revE, Oct-2010; PackageReference: DRV6-1600X1000TP; PackageDescription: 6-Pin Plastic Small Outline No-Lead, 2 x 2 x 0.8 mm Body, 0.65 mm Pitch, Exposed Pad; Supplier 1: Digi-Key; Supplier Part Number 1: 296-23998-2-ND; Supplier 2: Digi-Key; Supplier Part Number 2: 296-23998-1-ND; Supplier 3: Digi-Key; Supplier Part Number 3: 296-23998-6-ND; Supplier 4: Newark; Supplier Part Number 4: 40P3869; Supplier 5: Mouser; Supplier Part Number 5: 595-TPS2552DRVT-1; Current Limit Topology: Latch-off; Current Limit(A): 0.075 to 1.7; Eco-Plan: Green (RoHS & no Sb/Br); Enable: Active Low; Mounting Technology: Surface Mount; ComponentLink1Description: Datasheet; ComponentLink1URL: http://www.ti.com/general/docs/lit/getliterature.tsp?genericPartNumber=TPS2552-1&fileType=pdf
footprint DRV6-1600X1000TP (SON, 6-Leads, Body 2x2mm, Pitch 0.65mm, Thermal Pad 1.6x1mm, TI Recommended)
pins: 1 OUT (power) "Power-switch output", 2 ILIM (in) "External resistor used to set current-limit threshold; recommended 15 k ohm =< RILIM =< 232 k ohm.", 3 ~{FAULT} (hiz) "Active-low open-drain output, asserted during overcurrent, overtemperature, or reverse-voltage conditions.", 4 ~{EN} (in) "Enable input, logic low turns on power switch", 5 GND (power) "Ground connection; connect externally to PowerPAD", 6 IN (power) "Input voltage; connect a 0.1 uF or greater ceramic capacitor from IN to GND as close to the IC as possible.", 7 EP (power) "Internally connected to GND; used to heat-sink the part to the circuit board traces. Connect PowerPAD to GND pin externally."

## TPS2553DBVR
designator U?
Adjustable, Active High, Constant-Current, Current-Limited Power-Distribution Switch, 0.075 to 1.7 A Current Limit, -40 to 85 degC, 6-pin SOT-23 (DBV), Green (RoHS & no Sb/Br); Manufacturer: Texas Instruments; PartNumber: TPS2553DBVR; Continuous Current(Max)(A): 1.5; Current Limit Accuracy @ 1A: +/-7.5% (925mA min / 1075mA max); Number of Switches: 1; Rating: Catalog; rDS(on) per FET(Typ)(mOhms): 100/DRV, 85/DBV; Vin(Max)(V): 6.5; Vin(Min)(V): 2.5; DatasheetVersion: SLVS841E; PackageVersion: revK, Mar-2006; PackageReference: DBV6; PackageDescription: 6-Pin Plastic Small-Outline Package, 2.9 x 1.6 mm Body, 0.95 mm Pitch, 2.8 mm Lead Span; Supplier 1: Digi-Key; Supplier Part Number 1: 296-32464-2-ND; Supplier 2: Digi-Key; Supplier Part Number 2: 296-32464-1-ND; Supplier 3: Digi-Key; Supplier Part Number 3: 296-32464-6-ND; Supplier 4: Newark; Supplier Part Number 4: 45P8271; Supplier 5: Mouser; Supplier Part Number 5: 595-TPS2553DBVR; Current Limit Topology: Constant-Current; Current Limit(A): 0.075 to 1.7; Eco-Plan: Green (RoHS & no Sb/Br); Enable: Active High; Mounting Technology: Surface Mount; Code_JEDEC: MO-178-AB*; ComponentLink1Description: Datasheet; ComponentLink1URL: http://www.ti.com/general/docs/lit/getliterature.tsp?genericPartNumber=TPS2553&fileType=pdf
footprint DBV6_N (SOT23, 6-Leads, Body 2.9x1.6mm, Pitch 0.95mm, Lead Span 2.8mm, IPC Medium Density)
footprint DBV6_L (SOT23, 6-Leads, Body 2.9x1.6mm, Pitch 0.95mm, Lead Span 2.8mm, IPC High Density)
footprint DBV6_M (SOT23, 6-Leads, Body 2.9x1.6mm, Pitch 0.95mm, Lead Span 2.8mm, IPC Low Density)
pins: 1 IN (power) "Input voltage; connect a 0.1 uF or greater ceramic capacitor from IN to GND as close to the IC as possible.", 2 GND (power) "Ground connection; connect externally to PowerPAD", 3 EN (in) "Enable input, logic low turns on power switch", 4 ~{FAULT} (hiz) "Active-low open-drain output, asserted during overcurrent, overtemperature, or reverse-voltage conditions.", 5 ILIM (in) "External resistor used to set current-limit threshold; recommended 15 k ohm =< RILIM =< 232k ohm.", 6 OUT (power) "Power-switch output"

## TPS2553DBVR-1
designator U?
Adjustable, Active High, Latch-off, Current-Limited Power-Distribution Switch, 0.075 to 1.7 A Current Limit, -40 to 85 degC, 6-pin SOT-23 (DBV), Green (RoHS & no Sb/Br); Manufacturer: Texas Instruments; PartNumber: TPS2553DBVR-1; Continuous Current(Max)(A): 1.5; Current Limit Accuracy @ 1A: +/-7.5% (925mA min / 1075mA max); Number of Switches: 1; Rating: Catalog; rDS(on) per FET(Typ)(mOhms): 100/DRV, 85/DBV; Vin(Max)(V): 6.5; Vin(Min)(V): 2.5; DatasheetVersion: SLVS841E; PackageVersion: revK, Mar-2006; PackageReference: DBV6; PackageDescription: 6-Pin Plastic Small-Outline Package, 2.9 x 1.6 mm Body, 0.95 mm Pitch, 2.8 mm Lead Span; Supplier 1: Digi-Key; Supplier Part Number 1: TPS2553DBVR-1-ND; Supplier 2: Newark; Supplier Part Number 2: 45P8272; Supplier 3: Mouser; Supplier Part Number 3: 595-TPS2553DBVR-1; Current Limit Topology: Latch-off; Current Limit(A): 0.075 to 1.7; Eco-Plan: Green (RoHS & no Sb/Br); Enable: Active High; Mounting Technology: Surface Mount; Code_JEDEC: MO-178-AB*; ComponentLink1Description: Datasheet; ComponentLink1URL: http://www.ti.com/general/docs/lit/getliterature.tsp?genericPartNumber=TPS2553-1&fileType=pdf
footprint DBV6_N (SOT23, 6-Leads, Body 2.9x1.6mm, Pitch 0.95mm, Lead Span 2.8mm, IPC Medium Density)
footprint DBV6_L (SOT23, 6-Leads, Body 2.9x1.6mm, Pitch 0.95mm, Lead Span 2.8mm, IPC High Density)
footprint DBV6_M (SOT23, 6-Leads, Body 2.9x1.6mm, Pitch 0.95mm, Lead Span 2.8mm, IPC Low Density)
pins: 1 IN (power) "Input voltage; connect a 0.1 uF or greater ceramic capacitor from IN to GND as close to the IC as possible.", 2 GND (power) "Ground connection", 3 EN (in) "Enable input, logic high turns on power switch", 4 ~{FAULT} (hiz) "Active-low open-drain output, asserted during overcurrent, overtemperature, or reverse-voltage conditions.", 5 ILIM (in) "External resistor used to set current-limit threshold; recommended 15 k ohm =< RILIM=< 232 k ohm.", 6 OUT (power) "Power-switch output"

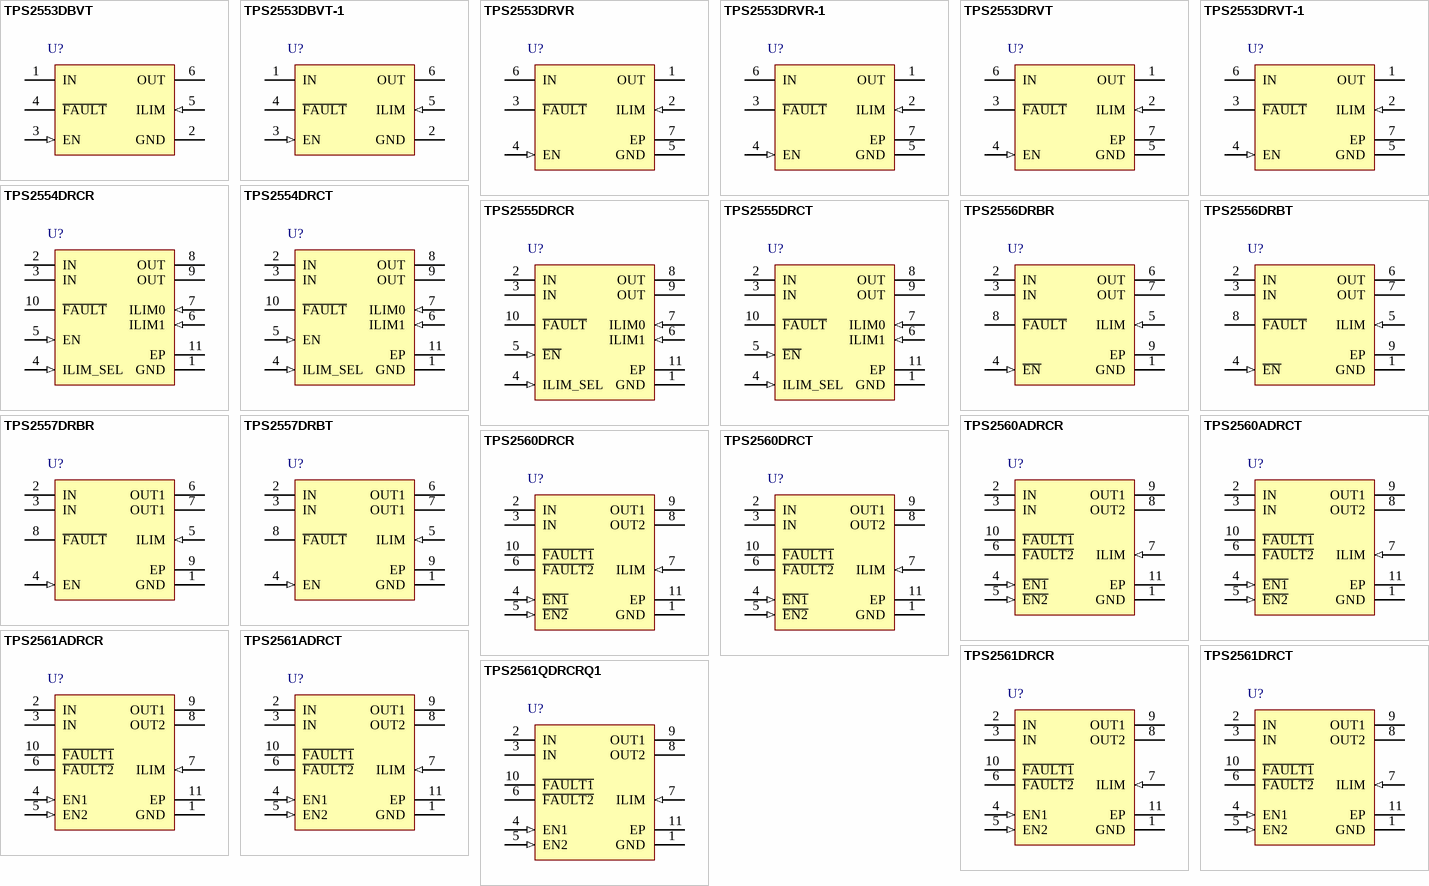
[diagram p10: symbols TPS2553DBVT to TPS2561QDRCRQ1]

## TPS2553DBVT
designator U?
Adjustable, Active High, Constant-Current, Current-Limited Power-Distribution Switch, 0.075 to 1.7 A Current Limit, -40 to 85 degC, 6-pin SOT-23 (DBV), Green (RoHS & no Sb/Br); Manufacturer: Texas Instruments; PartNumber: TPS2553DBVT; Continuous Current(Max)(A): 1.5; Current Limit Accuracy @ 1A: +/-7.5% (925mA min / 1075mA max); Number of Switches: 1; Rating: Catalog; rDS(on) per FET(Typ)(mOhms): 100/DRV, 85/DBV; Vin(Max)(V): 6.5; Vin(Min)(V): 2.5; DatasheetVersion: SLVS841E; PackageVersion: revK, Mar-2006; PackageReference: DBV6; PackageDescription: 6-Pin Plastic Small-Outline Package, 2.9 x 1.6 mm Body, 0.95 mm Pitch, 2.8 mm Lead Span; Supplier 1: Digi-Key; Supplier Part Number 1: 296-23990-2-ND; Supplier 2: Digi-Key; Supplier Part Number 2: 296-23990-1-ND; Supplier 3: Digi-Key; Supplier Part Number 3: 296-23990-6-ND; Supplier 4: Farnell; Supplier Part Number 4: 1694425; Supplier 5: Newark; Supplier Part Number 5: 40P3870; Supplier 6: Mouser; Supplier Part Number 6: 595-TPS2553DBVT; Current Limit Topology: Constant-Current; Current Limit(A): 0.075 to 1.7; Eco-Plan: Green (RoHS & no Sb/Br); Enable: Active High; Mounting Technology: Surface Mount; Code_JEDEC: MO-178-AB*; ComponentLink1Description: Datasheet; ComponentLink1URL: http://www.ti.com/general/docs/lit/getliterature.tsp?genericPartNumber=TPS2553&fileType=pdf
footprint DBV6_N (SOT23, 6-Leads, Body 2.9x1.6mm, Pitch 0.95mm, Lead Span 2.8mm, IPC Medium Density)
footprint DBV6_L (SOT23, 6-Leads, Body 2.9x1.6mm, Pitch 0.95mm, Lead Span 2.8mm, IPC High Density)
footprint DBV6_M (SOT23, 6-Leads, Body 2.9x1.6mm, Pitch 0.95mm, Lead Span 2.8mm, IPC Low Density)
pins: 1 IN (power) "Input voltage; connect a 0.1 uF or greater ceramic capacitor from IN to GND as close to the IC as possible.", 2 GND (power) "Ground connection; connect externally to PowerPAD", 3 EN (in) "Enable input, logic low turns on power switch", 4 ~{FAULT} (hiz) "Active-low open-drain output, asserted during overcurrent, overtemperature, or reverse-voltage conditions.", 5 ILIM (in) "External resistor used to set current-limit threshold; recommended 15 k ohm =< RILIM =< 232k ohm.", 6 OUT (power) "Power-switch output"

## TPS2553DBVT-1
designator U?
Adjustable, Active High, Latch-off, Current-Limited Power-Distribution Switch, 0.075 to 1.7 A Current Limit, -40 to 85 degC, 6-pin SOT-23 (DBV), Green (RoHS & no Sb/Br); Manufacturer: Texas Instruments; PartNumber: TPS2553DBVT-1; Continuous Current(Max)(A): 1.5; Current Limit Accuracy @ 1A: +/-7.5% (925mA min / 1075mA max); Number of Switches: 1; Rating: Catalog; rDS(on) per FET(Typ)(mOhms): 100/DRV, 85/DBV; Vin(Max)(V): 6.5; Vin(Min)(V): 2.5; DatasheetVersion: SLVS841E; PackageVersion: revK, Mar-2006; PackageReference: DBV6; PackageDescription: 6-Pin Plastic Small-Outline Package, 2.9 x 1.6 mm Body, 0.95 mm Pitch, 2.8 mm Lead Span; Supplier 1: Digi-Key; Supplier Part Number 1: 296-23991-2-ND; Supplier 2: Digi-Key; Supplier Part Number 2: 296-23991-1-ND; Supplier 3: Digi-Key; Supplier Part Number 3: 296-23991-6-ND; Supplier 4: Farnell; Supplier Part Number 4: 1694426; Supplier 5: Newark; Supplier Part Number 5: 40P3871; Supplier 6: Mouser; Supplier Part Number 6: 595-TPS2553DBVT-1; Current Limit Topology: Latch-off; Current Limit(A): 0.075 to 1.7; Eco-Plan: Green (RoHS & no Sb/Br); Enable: Active High; Mounting Technology: Surface Mount; Code_JEDEC: MO-178-AB*; ComponentLink1Description: Datasheet; ComponentLink1URL: http://www.ti.com/general/docs/lit/getliterature.tsp?genericPartNumber=TPS2553-1&fileType=pdf
footprint DBV6_N (SOT23, 6-Leads, Body 2.9x1.6mm, Pitch 0.95mm, Lead Span 2.8mm, IPC Medium Density)
footprint DBV6_L (SOT23, 6-Leads, Body 2.9x1.6mm, Pitch 0.95mm, Lead Span 2.8mm, IPC High Density)
footprint DBV6_M (SOT23, 6-Leads, Body 2.9x1.6mm, Pitch 0.95mm, Lead Span 2.8mm, IPC Low Density)
pins: 1 IN (power) "Input voltage; connect a 0.1 uF or greater ceramic capacitor from IN to GND as close to the IC as possible.", 2 GND (power) "Ground connection", 3 EN (in) "Enable input, logic high turns on power switch", 4 ~{FAULT} (hiz) "Active-low open-drain output, asserted during overcurrent, overtemperature, or reverse-voltage conditions.", 5 ILIM (in) "External resistor used to set current-limit threshold; recommended 15 k ohm =< RILIM=< 232 k ohm.", 6 OUT (power) "Power-switch output"

## TPS2553DRVR
designator U?
Adjustable, Active High, Constant-Current, Current-Limited Power-Distribution Switch, 0.075 to 1.7 A Current Limit, -40 to 85 degC, 6-pin SON (DRV), Green (RoHS & no Sb/Br); Manufacturer: Texas Instruments; PartNumber: TPS2553DRVR; Continuous Current(Max)(A): 1.5; Current Limit Accuracy @ 1A: +/-7.5% (925mA min / 1075mA max); Number of Switches: 1; Rating: Catalog; rDS(on) per FET(Typ)(mOhms): 100/DRV, 85/DBV; Vin(Max)(V): 6.5; Vin(Min)(V): 2.5; DatasheetVersion: SLVS841E; PackageVersion: revE, Oct-2010; PackageReference: DRV6-1600X1000TP; PackageDescription: 6-Pin Plastic Small Outline No-Lead, 2 x 2 x 0.8 mm Body, 0.65 mm Pitch, Exposed Pad; Supplier 1: Digi-Key; Supplier Part Number 1: TPS2553DRVR-ND; Supplier 2: Newark; Supplier Part Number 2: 45P8274; Supplier 3: Mouser; Supplier Part Number 3: 595-TPS2553DRVR; Current Limit Topology: Constant-Current; Current Limit(A): 0.075 to 1.7; Eco-Plan: Green (RoHS & no Sb/Br); Enable: Active High; Mounting Technology: Surface Mount; ComponentLink1Description: Datasheet; ComponentLink1URL: http://www.ti.com/general/docs/lit/getliterature.tsp?genericPartNumber=TPS2553&fileType=pdf
footprint DRV6-1600X1000TP (SON, 6-Leads, Body 2x2mm, Pitch 0.65mm, Thermal Pad 1.6x1mm, TI Recommended)
pins: 1 OUT (power) "Power-switch output", 2 ILIM (in) "External resistor used to set current-limit threshold; recommended 15 k ohm =< RILIM =< 232 k ohm.", 3 ~{FAULT} (hiz) "Active-low open-drain output, asserted during overcurrent, overtemperature, or reverse-voltage conditions.", 4 EN (in) "Enable input, logic high turns on power switch", 5 GND (power) "Ground connection; connect externally to PowerPAD", 6 IN (power) "Input voltage; connect a 0.1 uF or greater ceramic capacitor from IN to GND as close to the IC as possible.", 7 EP (power) "Internally connected to GND; used to heat-sink the part to the circuit board traces. Connect PowerPAD to GND pin externally."

## TPS2553DRVR-1
designator U?
Adjustable, Active High, Latch-off, Current-Limited Power-Distribution Switch, 0.075 to 1.7 A Current Limit, -40 to 85 degC, 6-pin SON (DRV), Green (RoHS & no Sb/Br); Manufacturer: Texas Instruments; PartNumber: TPS2553DRVR-1; Continuous Current(Max)(A): 1.5; Current Limit Accuracy @ 1A: +/-7.5% (925mA min / 1075mA max); Number of Switches: 1; Rating: Catalog; rDS(on) per FET(Typ)(mOhms): 100/DRV, 85/DBV; Vin(Max)(V): 6.5; Vin(Min)(V): 2.5; DatasheetVersion: SLVS841E; PackageVersion: revE, Oct-2010; PackageReference: DRV6-1600X1000TP; PackageDescription: 6-Pin Plastic Small Outline No-Lead, 2 x 2 x 0.8 mm Body, 0.65 mm Pitch, Exposed Pad; Supplier 1: Digi-Key; Supplier Part Number 1: TPS2553DRVR-1-ND; Supplier 2: Newark; Supplier Part Number 2: 45P8275; Supplier 3: Mouser; Supplier Part Number 3: 595-TPS2553DRVR-1; Current Limit Topology: Latch-off; Current Limit(A): 0.075 to 1.7; Eco-Plan: Green (RoHS & no Sb/Br); Enable: Active High; Mounting Technology: Surface Mount; ComponentLink1Description: Datasheet; ComponentLink1URL: http://www.ti.com/general/docs/lit/getliterature.tsp?genericPartNumber=TPS2553-1&fileType=pdf
footprint DRV6-1600X1000TP (SON, 6-Leads, Body 2x2mm, Pitch 0.65mm, Thermal Pad 1.6x1mm, TI Recommended)
pins: 1 OUT (power) "Power-switch output", 2 ILIM (in) "External resistor used to set current-limit threshold; recommended 15 k ohm =< RILIM =< 232 k ohm.", 3 ~{FAULT} (hiz) "Active-low open-drain output, asserted during overcurrent, overtemperature, or reverse-voltage conditions.", 4 EN (in) "Enable input, logic high turns on power switch", 5 GND (power) "Ground connection; connect externally to PowerPAD", 6 IN (power) "Input voltage; connect a 0.1 uF or greater ceramic capacitor from IN to GND as close to the IC as possible.", 7 EP (power) "Internally connected to GND; used to heat-sink the part to the circuit board traces. Connect PowerPAD to GND pin externally."